# EAGLE library part TS5A3359 (library trainlib)
SP3T analog mux 1-Ohm 3-way multiplexer, controlled by two input lines. http://www.ti.com/lit/ds/symlink/ts5a3359.pdf
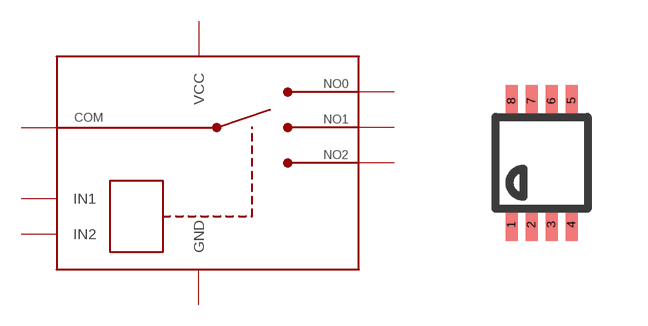
[diagram p13: symbol with the pads of US8; footprint US8]

Designator prefix -

## TS5A3359  [US8]
1  NO0
2  NO1
3  NO2
4  GND
5  IN2
6  IN1
7  COM
8  VCC

## Footprint US8 (pad centres in mm)
us8 Package
smd 0.3 x 0.8: 1 -0.75,-1.55; 2 -0.25,-1.55; 3 0.25,-1.55; 4 0.75,-1.55; 5 0.75,1.55; 6 0.25,1.55; 7 -0.25,1.55; 8 -0.75,1.55